# Altium integrated library ST Memory EEPROM Serial.IntLib: 637 symbols (part 1 of 9)
Pins are listed as number, name and electrical type; pins without a type are passive.

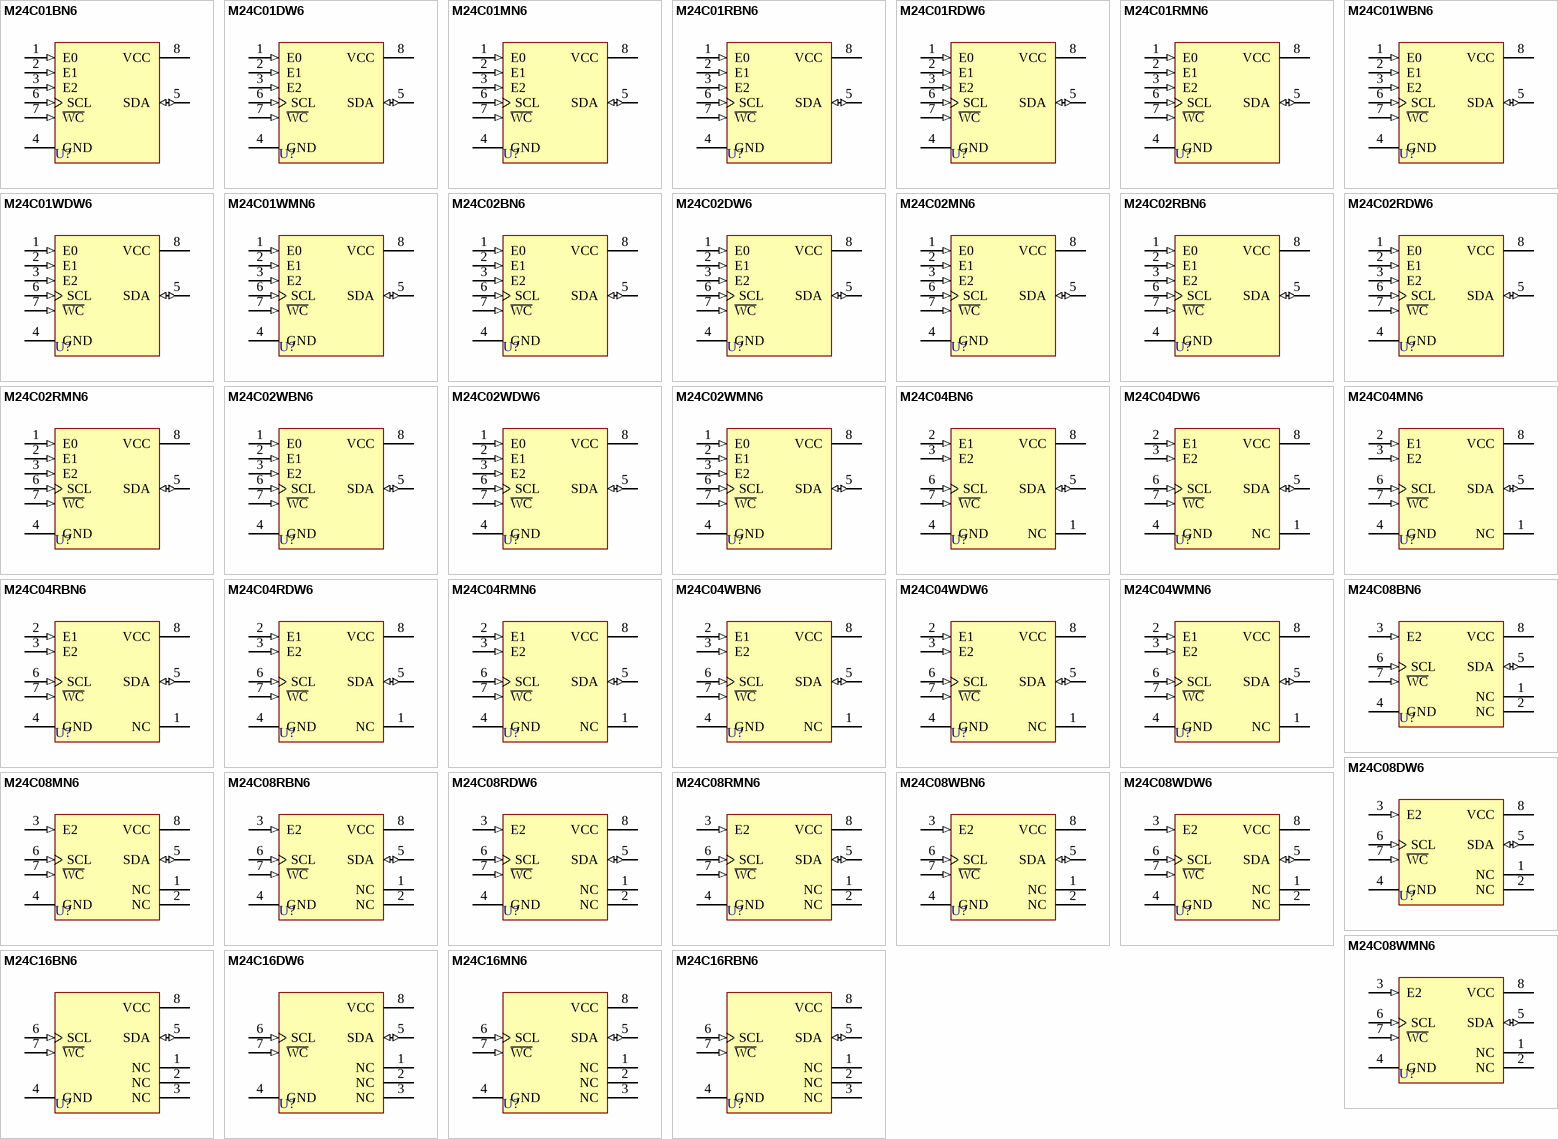
[diagram p0: symbols M24C01BN6 to M24C16RBN6]

## M24C01BN6
designator U?
1Kbit Serial I²C Bus EEPROM; Published: 24-Aug-2001; LatestRevisionDate: 6-Jun-2005; LatestRevisionNote: Stylized 3D Model Added.; DatasheetDocument: Sep-1999; PackageDocument: Jun-1998; PackageReference: PSDIP8A; Publisher: Altium Limited; ComponentLink1Description: Manufacturer Link; ComponentLink1URL: http://www.st.com/; ComponentLink2Description: Datasheet; ComponentLink2URL: http://www.st.com/stonline/products/literature/ds/5067/m24c01-r.pdf
footprint PSDIP8A (DIP; 8 Leads; Row Spacing 7.62 mm; Pitch 2.54 mm)
3D model PSDIP8A (DIP; 8 Leads; Row Spacing 7.62 mm; Pitch 2.54 mm)
pins: 1 E0 (in), 2 E1 (in), 3 E2 (in), 4 GND (power), 5 SDA (io), 6 SCL (in), 7 ~{WC} (in), 8 VCC (power)

## M24C01DW6
designator U?
1Kbit Serial I²C Bus EEPROM; Published: 24-Aug-2001; LatestRevisionDate: 6-Jun-2005; LatestRevisionNote: Stylized 3D Model Added.; DatasheetDocument: Sep-1999; PackageDocument: Jul-1998; PackageReference: TSSOP8; Publisher: Altium Limited; ComponentLink1Description: Manufacturer Link; ComponentLink1URL: http://www.st.com/; ComponentLink2Description: Datasheet; ComponentLink2URL: http://www.st.com/stonline/products/literature/ds/5067/m24c01-r.pdf
footprint TSSOP8 (Shrink Small Outline; 8 Leads; Body Width 4.4 mm; Pitch 0.65 mm)
3D model TSSOP8 (Shrink Small Outline; 8 Leads; Body Width 4.4 mm; Pitch 0.65 mm)
pins: 1 E0 (in), 2 E1 (in), 3 E2 (in), 4 GND (power), 5 SDA (io), 6 SCL (in), 7 ~{WC} (in), 8 VCC (power)

## M24C01MN6
designator U?
1Kbit Serial I²C Bus EEPROM; Published: 24-Aug-2001; LatestRevisionDate: 6-Jun-2005; LatestRevisionNote: Stylized 3D Model Added.; DatasheetDocument: Sep-1999; PackageDocument: Jul-1999; PackageReference: SOP8; Publisher: Altium Limited; ComponentLink1Description: Manufacturer Link; ComponentLink1URL: http://www.st.com/; ComponentLink2Description: Datasheet; ComponentLink2URL: http://www.st.com/stonline/products/literature/ds/5067/m24c01-r.pdf
footprint SOP8 (Small Outline; 8 Leads; Body Width 3.9 mm; Pitch 1.27 mm)
3D model SOP8 (Small Outline; 8 Leads; Body Width 3.9 mm; Pitch 1.27 mm)
pins: 1 E0 (in), 2 E1 (in), 3 E2 (in), 4 GND (power), 5 SDA (io), 6 SCL (in), 7 ~{WC} (in), 8 VCC (power)

## M24C01RBN6
designator U?
1Kbit Serial I²C Bus EEPROM; Published: 24-Aug-2001; LatestRevisionDate: 6-Jun-2005; LatestRevisionNote: Stylized 3D Model Added.; DatasheetDocument: Sep-1999; PackageDocument: Jun-1998; PackageReference: PSDIP8A; Publisher: Altium Limited; ComponentLink1Description: Manufacturer Link; ComponentLink1URL: http://www.st.com/; ComponentLink2Description: Datasheet; ComponentLink2URL: http://www.st.com/stonline/products/literature/ds/5067/m24c01-r.pdf
footprint PSDIP8A (DIP; 8 Leads; Row Spacing 7.62 mm; Pitch 2.54 mm)
3D model PSDIP8A (DIP; 8 Leads; Row Spacing 7.62 mm; Pitch 2.54 mm)
pins: 1 E0 (in), 2 E1 (in), 3 E2 (in), 4 GND (power), 5 SDA (io), 6 SCL (in), 7 ~{WC} (in), 8 VCC (power)

## M24C01RDW6
designator U?
1Kbit Serial I²C Bus EEPROM; Published: 24-Aug-2001; LatestRevisionDate: 6-Jun-2005; LatestRevisionNote: Stylized 3D Model Added.; DatasheetDocument: Sep-1999; PackageDocument: Jul-1998; PackageReference: TSSOP8; Publisher: Altium Limited; ComponentLink1Description: Manufacturer Link; ComponentLink1URL: http://www.st.com/; ComponentLink2Description: Datasheet; ComponentLink2URL: http://www.st.com/stonline/products/literature/ds/5067/m24c01-r.pdf
footprint TSSOP8 (Shrink Small Outline; 8 Leads; Body Width 4.4 mm; Pitch 0.65 mm)
3D model TSSOP8 (Shrink Small Outline; 8 Leads; Body Width 4.4 mm; Pitch 0.65 mm)
pins: 1 E0 (in), 2 E1 (in), 3 E2 (in), 4 GND (power), 5 SDA (io), 6 SCL (in), 7 ~{WC} (in), 8 VCC (power)

## M24C01RMN6
designator U?
1Kbit Serial I²C Bus EEPROM; Published: 24-Aug-2001; LatestRevisionDate: 6-Jun-2005; LatestRevisionNote: Stylized 3D Model Added.; DatasheetDocument: Sep-1999; PackageDocument: Jul-1999; PackageReference: SOP8; Publisher: Altium Limited; ComponentLink1Description: Manufacturer Link; ComponentLink1URL: http://www.st.com/; ComponentLink2Description: Datasheet; ComponentLink2URL: http://www.st.com/stonline/products/literature/ds/5067/m24c01-r.pdf
footprint SOP8 (Small Outline; 8 Leads; Body Width 3.9 mm; Pitch 1.27 mm)
3D model SOP8 (Small Outline; 8 Leads; Body Width 3.9 mm; Pitch 1.27 mm)
pins: 1 E0 (in), 2 E1 (in), 3 E2 (in), 4 GND (power), 5 SDA (io), 6 SCL (in), 7 ~{WC} (in), 8 VCC (power)

## M24C01WBN6
designator U?
1Kbit Serial I²C Bus EEPROM; Published: 24-Aug-2001; LatestRevisionDate: 6-Jun-2005; LatestRevisionNote: Stylized 3D Model Added.; DatasheetDocument: Sep-1999; PackageDocument: Jun-1998; PackageReference: PSDIP8A; Publisher: Altium Limited; ComponentLink1Description: Manufacturer Link; ComponentLink1URL: http://www.st.com/; ComponentLink2Description: Datasheet; ComponentLink2URL: http://www.st.com/stonline/products/literature/ds/5067/m24c01-r.pdf
footprint PSDIP8A (DIP; 8 Leads; Row Spacing 7.62 mm; Pitch 2.54 mm)
3D model PSDIP8A (DIP; 8 Leads; Row Spacing 7.62 mm; Pitch 2.54 mm)
pins: 1 E0 (in), 2 E1 (in), 3 E2 (in), 4 GND (power), 5 SDA (io), 6 SCL (in), 7 ~{WC} (in), 8 VCC (power)

## M24C01WDW6
designator U?
1Kbit Serial I²C Bus EEPROM; Published: 24-Aug-2001; LatestRevisionDate: 6-Jun-2005; LatestRevisionNote: Stylized 3D Model Added.; DatasheetDocument: Sep-1999; PackageDocument: Jul-1998; PackageReference: TSSOP8; Publisher: Altium Limited; ComponentLink1Description: Manufacturer Link; ComponentLink1URL: http://www.st.com/; ComponentLink2Description: Datasheet; ComponentLink2URL: http://www.st.com/stonline/products/literature/ds/5067/m24c01-r.pdf
footprint TSSOP8 (Shrink Small Outline; 8 Leads; Body Width 4.4 mm; Pitch 0.65 mm)
3D model TSSOP8 (Shrink Small Outline; 8 Leads; Body Width 4.4 mm; Pitch 0.65 mm)
pins: 1 E0 (in), 2 E1 (in), 3 E2 (in), 4 GND (power), 5 SDA (io), 6 SCL (in), 7 ~{WC} (in), 8 VCC (power)

## M24C01WMN6
designator U?
1Kbit Serial I²C Bus EEPROM; Published: 24-Aug-2001; LatestRevisionDate: 6-Jun-2005; LatestRevisionNote: Stylized 3D Model Added.; DatasheetDocument: Sep-1999; PackageDocument: Jul-1999; PackageReference: SOP8; Publisher: Altium Limited; ComponentLink1Description: Manufacturer Link; ComponentLink1URL: http://www.st.com/; ComponentLink2Description: Datasheet; ComponentLink2URL: http://www.st.com/stonline/products/literature/ds/5067/m24c01-r.pdf
footprint SOP8 (Small Outline; 8 Leads; Body Width 3.9 mm; Pitch 1.27 mm)
3D model SOP8 (Small Outline; 8 Leads; Body Width 3.9 mm; Pitch 1.27 mm)
pins: 1 E0 (in), 2 E1 (in), 3 E2 (in), 4 GND (power), 5 SDA (io), 6 SCL (in), 7 ~{WC} (in), 8 VCC (power)

## M24C02BN6
designator U?
2Kbit Serial I²C Bus EEPROM; Published: 24-Aug-2001; LatestRevisionDate: 6-Jun-2005; LatestRevisionNote: Stylized 3D Model Added.; DatasheetDocument: Sep-1999; PackageDocument: Jun-1998; PackageReference: PSDIP8A; Publisher: Altium Limited; ComponentLink1Description: Manufacturer Link; ComponentLink1URL: http://www.st.com/; ComponentLink2Description: Datasheet; ComponentLink2URL: http://www.st.com/stonline/products/literature/ds/5067/m24c01-r.pdf
footprint PSDIP8A (DIP; 8 Leads; Row Spacing 7.62 mm; Pitch 2.54 mm)
3D model PSDIP8A (DIP; 8 Leads; Row Spacing 7.62 mm; Pitch 2.54 mm)
pins: 1 E0 (in), 2 E1 (in), 3 E2 (in), 4 GND (power), 5 SDA (io), 6 SCL (in), 7 ~{WC} (in), 8 VCC (power)

## M24C02DW6
designator U?
2Kbit Serial I²C Bus EEPROM; Published: 24-Aug-2001; LatestRevisionDate: 6-Jun-2005; LatestRevisionNote: Stylized 3D Model Added.; DatasheetDocument: Sep-1999; PackageDocument: Jul-1998; PackageReference: TSSOP8; Publisher: Altium Limited; ComponentLink1Description: Manufacturer Link; ComponentLink1URL: http://www.st.com/; ComponentLink2Description: Datasheet; ComponentLink2URL: http://www.st.com/stonline/products/literature/ds/5067/m24c01-r.pdf
footprint TSSOP8 (Shrink Small Outline; 8 Leads; Body Width 4.4 mm; Pitch 0.65 mm)
3D model TSSOP8 (Shrink Small Outline; 8 Leads; Body Width 4.4 mm; Pitch 0.65 mm)
pins: 1 E0 (in), 2 E1 (in), 3 E2 (in), 4 GND (power), 5 SDA (io), 6 SCL (in), 7 ~{WC} (in), 8 VCC (power)

## M24C02MN6
designator U?
2Kbit Serial I²C Bus EEPROM; Published: 24-Aug-2001; LatestRevisionDate: 6-Jun-2005; LatestRevisionNote: Stylized 3D Model Added.; DatasheetDocument: Sep-1999; PackageDocument: Jul-1999; PackageReference: SOP8; Publisher: Altium Limited; ComponentLink1Description: Manufacturer Link; ComponentLink1URL: http://www.st.com/; ComponentLink2Description: Datasheet; ComponentLink2URL: http://www.st.com/stonline/products/literature/ds/5067/m24c01-r.pdf
footprint SOP8 (Small Outline; 8 Leads; Body Width 3.9 mm; Pitch 1.27 mm)
3D model SOP8 (Small Outline; 8 Leads; Body Width 3.9 mm; Pitch 1.27 mm)
pins: 1 E0 (in), 2 E1 (in), 3 E2 (in), 4 GND (power), 5 SDA (io), 6 SCL (in), 7 ~{WC} (in), 8 VCC (power)

## M24C02RBN6
designator U?
2Kbit Serial I²C Bus EEPROM; Published: 24-Aug-2001; LatestRevisionDate: 6-Jun-2005; LatestRevisionNote: Stylized 3D Model Added.; DatasheetDocument: Sep-1999; PackageDocument: Jun-1998; PackageReference: PSDIP8A; Publisher: Altium Limited; ComponentLink1Description: Manufacturer Link; ComponentLink1URL: http://www.st.com/; ComponentLink2Description: Datasheet; ComponentLink2URL: http://www.st.com/stonline/products/literature/ds/5067/m24c01-r.pdf
footprint PSDIP8A (DIP; 8 Leads; Row Spacing 7.62 mm; Pitch 2.54 mm)
3D model PSDIP8A (DIP; 8 Leads; Row Spacing 7.62 mm; Pitch 2.54 mm)
pins: 1 E0 (in), 2 E1 (in), 3 E2 (in), 4 GND (power), 5 SDA (io), 6 SCL (in), 7 ~{WC} (in), 8 VCC (power)

## M24C02RDW6
designator U?
2Kbit Serial I²C Bus EEPROM; Published: 24-Aug-2001; LatestRevisionDate: 6-Jun-2005; LatestRevisionNote: Stylized 3D Model Added.; DatasheetDocument: Sep-1999; PackageDocument: Jul-1998; PackageReference: TSSOP8; Publisher: Altium Limited; ComponentLink1Description: Manufacturer Link; ComponentLink1URL: http://www.st.com/; ComponentLink2Description: Datasheet; ComponentLink2URL: http://www.st.com/stonline/products/literature/ds/5067/m24c01-r.pdf
footprint TSSOP8 (Shrink Small Outline; 8 Leads; Body Width 4.4 mm; Pitch 0.65 mm)
3D model TSSOP8 (Shrink Small Outline; 8 Leads; Body Width 4.4 mm; Pitch 0.65 mm)
pins: 1 E0 (in), 2 E1 (in), 3 E2 (in), 4 GND (power), 5 SDA (io), 6 SCL (in), 7 ~{WC} (in), 8 VCC (power)

## M24C02RMN6
designator U?
2Kbit Serial I²C Bus EEPROM; Published: 24-Aug-2001; LatestRevisionDate: 6-Jun-2005; LatestRevisionNote: Stylized 3D Model Added.; DatasheetDocument: Sep-1999; PackageDocument: Jul-1999; PackageReference: SOP8; Publisher: Altium Limited; ComponentLink1Description: Manufacturer Link; ComponentLink1URL: http://www.st.com/; ComponentLink2Description: Datasheet; ComponentLink2URL: http://www.st.com/stonline/products/literature/ds/5067/m24c01-r.pdf
footprint SOP8 (Small Outline; 8 Leads; Body Width 3.9 mm; Pitch 1.27 mm)
3D model SOP8 (Small Outline; 8 Leads; Body Width 3.9 mm; Pitch 1.27 mm)
pins: 1 E0 (in), 2 E1 (in), 3 E2 (in), 4 GND (power), 5 SDA (io), 6 SCL (in), 7 ~{WC} (in), 8 VCC (power)

## M24C02WBN6
designator U?
2Kbit Serial I²C Bus EEPROM; Published: 24-Aug-2001; LatestRevisionDate: 6-Jun-2005; LatestRevisionNote: Stylized 3D Model Added.; DatasheetDocument: Sep-1999; PackageDocument: Jun-1998; PackageReference: PSDIP8A; Publisher: Altium Limited; ComponentLink1Description: Manufacturer Link; ComponentLink1URL: http://www.st.com/; ComponentLink2Description: Datasheet; ComponentLink2URL: http://www.st.com/stonline/products/literature/ds/5067/m24c01-r.pdf
footprint PSDIP8A (DIP; 8 Leads; Row Spacing 7.62 mm; Pitch 2.54 mm)
3D model PSDIP8A (DIP; 8 Leads; Row Spacing 7.62 mm; Pitch 2.54 mm)
pins: 1 E0 (in), 2 E1 (in), 3 E2 (in), 4 GND (power), 5 SDA (io), 6 SCL (in), 7 ~{WC} (in), 8 VCC (power)

## M24C02WDW6
designator U?
2Kbit Serial I²C Bus EEPROM; Published: 24-Aug-2001; LatestRevisionDate: 6-Jun-2005; LatestRevisionNote: Stylized 3D Model Added.; DatasheetDocument: Sep-1999; PackageDocument: Jul-1998; PackageReference: TSSOP8; Publisher: Altium Limited; ComponentLink1Description: Manufacturer Link; ComponentLink1URL: http://www.st.com/; ComponentLink2Description: Datasheet; ComponentLink2URL: http://www.st.com/stonline/products/literature/ds/5067/m24c01-r.pdf
footprint TSSOP8 (Shrink Small Outline; 8 Leads; Body Width 4.4 mm; Pitch 0.65 mm)
3D model TSSOP8 (Shrink Small Outline; 8 Leads; Body Width 4.4 mm; Pitch 0.65 mm)
pins: 1 E0 (in), 2 E1 (in), 3 E2 (in), 4 GND (power), 5 SDA (io), 6 SCL (in), 7 ~{WC} (in), 8 VCC (power)

## M24C02WMN6
designator U?
2Kbit Serial I²C Bus EEPROM; Published: 24-Aug-2001; LatestRevisionDate: 6-Jun-2005; LatestRevisionNote: Stylized 3D Model Added.; DatasheetDocument: Sep-1999; PackageDocument: Jul-1999; PackageReference: SOP8; Publisher: Altium Limited; ComponentLink1Description: Manufacturer Link; ComponentLink1URL: http://www.st.com/; ComponentLink2Description: Datasheet; ComponentLink2URL: http://www.st.com/stonline/products/literature/ds/5067/m24c01-r.pdf
footprint SOP8 (Small Outline; 8 Leads; Body Width 3.9 mm; Pitch 1.27 mm)
3D model SOP8 (Small Outline; 8 Leads; Body Width 3.9 mm; Pitch 1.27 mm)
pins: 1 E0 (in), 2 E1 (in), 3 E2 (in), 4 GND (power), 5 SDA (io), 6 SCL (in), 7 ~{WC} (in), 8 VCC (power)

## M24C04BN6
designator U?
4Kbit Serial I²C Bus EEPROM; Published: 24-Aug-2001; LatestRevisionDate: 6-Jun-2005; LatestRevisionNote: Stylized 3D Model Added.; DatasheetDocument: Sep-1999; PackageDocument: Jun-1998; PackageReference: PSDIP8A; Publisher: Altium Limited; ComponentLink1Description: Manufacturer Link; ComponentLink1URL: http://www.st.com/; ComponentLink2Description: Datasheet; ComponentLink2URL: http://www.st.com/stonline/products/literature/ds/5067/m24c01-r.pdf
footprint PSDIP8A (DIP; 8 Leads; Row Spacing 7.62 mm; Pitch 2.54 mm)
3D model PSDIP8A (DIP; 8 Leads; Row Spacing 7.62 mm; Pitch 2.54 mm)
pins: 1 NC, 2 E1 (in), 3 E2 (in), 4 GND (power), 5 SDA (io), 6 SCL (in), 7 ~{WC} (in), 8 VCC (power)

## M24C04DW6
designator U?
4Kbit Serial I²C Bus EEPROM; Published: 24-Aug-2001; LatestRevisionDate: 6-Jun-2005; LatestRevisionNote: Stylized 3D Model Added.; DatasheetDocument: Sep-1999; PackageDocument: Jul-1998; PackageReference: TSSOP8; Publisher: Altium Limited; ComponentLink1Description: Manufacturer Link; ComponentLink1URL: http://www.st.com/; ComponentLink2Description: Datasheet; ComponentLink2URL: http://www.st.com/stonline/products/literature/ds/5067/m24c01-r.pdf
footprint TSSOP8 (Shrink Small Outline; 8 Leads; Body Width 4.4 mm; Pitch 0.65 mm)
3D model TSSOP8 (Shrink Small Outline; 8 Leads; Body Width 4.4 mm; Pitch 0.65 mm)
pins: 1 NC, 2 E1 (in), 3 E2 (in), 4 GND (power), 5 SDA (io), 6 SCL (in), 7 ~{WC} (in), 8 VCC (power)

## M24C04MN6
designator U?
4Kbit Serial I²C Bus EEPROM; Published: 24-Aug-2001; LatestRevisionDate: 6-Jun-2005; LatestRevisionNote: Stylized 3D Model Added.; DatasheetDocument: Sep-1999; PackageDocument: Jul-1999; PackageReference: SOP8; Publisher: Altium Limited; ComponentLink1Description: Manufacturer Link; ComponentLink1URL: http://www.st.com/; ComponentLink2Description: Datasheet; ComponentLink2URL: http://www.st.com/stonline/products/literature/ds/5067/m24c01-r.pdf
footprint SOP8 (Small Outline; 8 Leads; Body Width 3.9 mm; Pitch 1.27 mm)
3D model SOP8 (Small Outline; 8 Leads; Body Width 3.9 mm; Pitch 1.27 mm)
pins: 1 NC, 2 E1 (in), 3 E2 (in), 4 GND (power), 5 SDA (io), 6 SCL (in), 7 ~{WC} (in), 8 VCC (power)

## M24C04RBN6
designator U?
4Kbit Serial I²C Bus EEPROM; Published: 24-Aug-2001; LatestRevisionDate: 6-Jun-2005; LatestRevisionNote: Stylized 3D Model Added.; DatasheetDocument: Sep-1999; PackageDocument: Jun-1998; PackageReference: PSDIP8A; Publisher: Altium Limited; ComponentLink1Description: Manufacturer Link; ComponentLink1URL: http://www.st.com/; ComponentLink2Description: Datasheet; ComponentLink2URL: http://www.st.com/stonline/products/literature/ds/5067/m24c01-r.pdf
footprint PSDIP8A (DIP; 8 Leads; Row Spacing 7.62 mm; Pitch 2.54 mm)
3D model PSDIP8A (DIP; 8 Leads; Row Spacing 7.62 mm; Pitch 2.54 mm)
pins: 1 NC, 2 E1 (in), 3 E2 (in), 4 GND (power), 5 SDA (io), 6 SCL (in), 7 ~{WC} (in), 8 VCC (power)

## M24C04RDW6
designator U?
4Kbit Serial I²C Bus EEPROM; Published: 24-Aug-2001; LatestRevisionDate: 6-Jun-2005; LatestRevisionNote: Stylized 3D Model Added.; DatasheetDocument: Sep-1999; PackageDocument: Jul-1998; PackageReference: TSSOP8; Publisher: Altium Limited; ComponentLink1Description: Manufacturer Link; ComponentLink1URL: http://www.st.com/; ComponentLink2Description: Datasheet; ComponentLink2URL: http://www.st.com/stonline/products/literature/ds/5067/m24c01-r.pdf
footprint TSSOP8 (Shrink Small Outline; 8 Leads; Body Width 4.4 mm; Pitch 0.65 mm)
3D model TSSOP8 (Shrink Small Outline; 8 Leads; Body Width 4.4 mm; Pitch 0.65 mm)
pins: 1 NC, 2 E1 (in), 3 E2 (in), 4 GND (power), 5 SDA (io), 6 SCL (in), 7 ~{WC} (in), 8 VCC (power)

## M24C04RMN6
designator U?
4Kbit Serial I²C Bus EEPROM; Published: 24-Aug-2001; LatestRevisionDate: 6-Jun-2005; LatestRevisionNote: Stylized 3D Model Added.; DatasheetDocument: Sep-1999; PackageDocument: Jul-1999; PackageReference: SOP8; Publisher: Altium Limited; ComponentLink1Description: Manufacturer Link; ComponentLink1URL: http://www.st.com/; ComponentLink2Description: Datasheet; ComponentLink2URL: http://www.st.com/stonline/products/literature/ds/5067/m24c01-r.pdf
footprint SOP8 (Small Outline; 8 Leads; Body Width 3.9 mm; Pitch 1.27 mm)
3D model SOP8 (Small Outline; 8 Leads; Body Width 3.9 mm; Pitch 1.27 mm)
pins: 1 NC, 2 E1 (in), 3 E2 (in), 4 GND (power), 5 SDA (io), 6 SCL (in), 7 ~{WC} (in), 8 VCC (power)

## M24C04WBN6
designator U?
4Kbit Serial I²C Bus EEPROM; Published: 24-Aug-2001; LatestRevisionDate: 6-Jun-2005; LatestRevisionNote: Stylized 3D Model Added.; DatasheetDocument: Sep-1999; PackageDocument: Jun-1998; PackageReference: PSDIP8A; Publisher: Altium Limited; ComponentLink1Description: Manufacturer Link; ComponentLink1URL: http://www.st.com/; ComponentLink2Description: Datasheet; ComponentLink2URL: http://www.st.com/stonline/products/literature/ds/5067/m24c01-r.pdf
footprint PSDIP8A (DIP; 8 Leads; Row Spacing 7.62 mm; Pitch 2.54 mm)
3D model PSDIP8A (DIP; 8 Leads; Row Spacing 7.62 mm; Pitch 2.54 mm)
pins: 1 NC, 2 E1 (in), 3 E2 (in), 4 GND (power), 5 SDA (io), 6 SCL (in), 7 ~{WC} (in), 8 VCC (power)

## M24C04WDW6
designator U?
4Kbit Serial I²C Bus EEPROM; Published: 24-Aug-2001; LatestRevisionDate: 6-Jun-2005; LatestRevisionNote: Stylized 3D Model Added.; DatasheetDocument: Sep-1999; PackageDocument: Jul-1998; PackageReference: TSSOP8; Publisher: Altium Limited; ComponentLink1Description: Manufacturer Link; ComponentLink1URL: http://www.st.com/; ComponentLink2Description: Datasheet; ComponentLink2URL: http://www.st.com/stonline/products/literature/ds/5067/m24c01-r.pdf
footprint TSSOP8 (Shrink Small Outline; 8 Leads; Body Width 4.4 mm; Pitch 0.65 mm)
3D model TSSOP8 (Shrink Small Outline; 8 Leads; Body Width 4.4 mm; Pitch 0.65 mm)
pins: 1 NC, 2 E1 (in), 3 E2 (in), 4 GND (power), 5 SDA (io), 6 SCL (in), 7 ~{WC} (in), 8 VCC (power)

## M24C04WMN6
designator U?
4Kbit Serial I²C Bus EEPROM; Published: 24-Aug-2001; LatestRevisionDate: 6-Jun-2005; LatestRevisionNote: Stylized 3D Model Added.; DatasheetDocument: Sep-1999; PackageDocument: Jul-1999; PackageReference: SOP8; Publisher: Altium Limited; ComponentLink1Description: Manufacturer Link; ComponentLink1URL: http://www.st.com/; ComponentLink2Description: Datasheet; ComponentLink2URL: http://www.st.com/stonline/products/literature/ds/5067/m24c01-r.pdf
footprint SOP8 (Small Outline; 8 Leads; Body Width 3.9 mm; Pitch 1.27 mm)
3D model SOP8 (Small Outline; 8 Leads; Body Width 3.9 mm; Pitch 1.27 mm)
pins: 1 NC, 2 E1 (in), 3 E2 (in), 4 GND (power), 5 SDA (io), 6 SCL (in), 7 ~{WC} (in), 8 VCC (power)

## M24C08BN6
designator U?
8Kbit Serial I²C Bus EEPROM; Published: 24-Aug-2001; LatestRevisionDate: 6-Jun-2005; LatestRevisionNote: Stylized 3D Model Added.; DatasheetDocument: Sep-1999; PackageDocument: Jun-1998; PackageReference: PSDIP8A; Publisher: Altium Limited; ComponentLink1Description: Manufacturer Link; ComponentLink1URL: http://www.st.com/; ComponentLink2Description: Datasheet; ComponentLink2URL: http://www.st.com/stonline/products/literature/ds/5067/m24c01-r.pdf
footprint PSDIP8A (DIP; 8 Leads; Row Spacing 7.62 mm; Pitch 2.54 mm)
3D model PSDIP8A (DIP; 8 Leads; Row Spacing 7.62 mm; Pitch 2.54 mm)
pins: 1 NC, 2 NC, 3 E2 (in), 4 GND (power), 5 SDA (io), 6 SCL (in), 7 ~{WC} (in), 8 VCC (power)

## M24C08DW6
designator U?
8Kbit Serial I²C Bus EEPROM; Published: 24-Aug-2001; LatestRevisionDate: 6-Jun-2005; LatestRevisionNote: Stylized 3D Model Added.; DatasheetDocument: Sep-1999; PackageDocument: Jul-1998; PackageReference: TSSOP8; Publisher: Altium Limited; ComponentLink1Description: Manufacturer Link; ComponentLink1URL: http://www.st.com/; ComponentLink2Description: Datasheet; ComponentLink2URL: http://www.st.com/stonline/products/literature/ds/5067/m24c01-r.pdf
footprint TSSOP8 (Shrink Small Outline; 8 Leads; Body Width 4.4 mm; Pitch 0.65 mm)
3D model TSSOP8 (Shrink Small Outline; 8 Leads; Body Width 4.4 mm; Pitch 0.65 mm)
pins: 1 NC, 2 NC, 3 E2 (in), 4 GND (power), 5 SDA (io), 6 SCL (in), 7 ~{WC} (in), 8 VCC (power)

## M24C08MN6
designator U?
8Kbit Serial I²C Bus EEPROM; Published: 24-Aug-2001; LatestRevisionDate: 6-Jun-2005; LatestRevisionNote: Stylized 3D Model Added.; DatasheetDocument: Sep-1999; PackageDocument: Jul-1999; PackageReference: SOP8; Publisher: Altium Limited; ComponentLink1Description: Manufacturer Link; ComponentLink1URL: http://www.st.com/; ComponentLink2Description: Datasheet; ComponentLink2URL: http://www.st.com/stonline/products/literature/ds/5067/m24c01-r.pdf
footprint SOP8 (Small Outline; 8 Leads; Body Width 3.9 mm; Pitch 1.27 mm)
3D model SOP8 (Small Outline; 8 Leads; Body Width 3.9 mm; Pitch 1.27 mm)
pins: 1 NC, 2 NC, 3 E2 (in), 4 GND (power), 5 SDA (io), 6 SCL (in), 7 ~{WC} (in), 8 VCC (power)

## M24C08RBN6
designator U?
8Kbit Serial I²C Bus EEPROM; Published: 24-Aug-2001; LatestRevisionDate: 6-Jun-2005; LatestRevisionNote: Stylized 3D Model Added.; DatasheetDocument: Sep-1999; PackageDocument: Jun-1998; PackageReference: PSDIP8A; Publisher: Altium Limited; ComponentLink1Description: Manufacturer Link; ComponentLink1URL: http://www.st.com/; ComponentLink2Description: Datasheet; ComponentLink2URL: http://www.st.com/stonline/products/literature/ds/5067/m24c01-r.pdf
footprint PSDIP8A (DIP; 8 Leads; Row Spacing 7.62 mm; Pitch 2.54 mm)
3D model PSDIP8A (DIP; 8 Leads; Row Spacing 7.62 mm; Pitch 2.54 mm)
pins: 1 NC, 2 NC, 3 E2 (in), 4 GND (power), 5 SDA (io), 6 SCL (in), 7 ~{WC} (in), 8 VCC (power)

## M24C08RDW6
designator U?
8Kbit Serial I²C Bus EEPROM; Published: 24-Aug-2001; LatestRevisionDate: 6-Jun-2005; LatestRevisionNote: Stylized 3D Model Added.; DatasheetDocument: Sep-1999; PackageDocument: Jul-1998; PackageReference: TSSOP8; Publisher: Altium Limited; ComponentLink1Description: Manufacturer Link; ComponentLink1URL: http://www.st.com/; ComponentLink2Description: Datasheet; ComponentLink2URL: http://www.st.com/stonline/products/literature/ds/5067/m24c01-r.pdf
footprint TSSOP8 (Shrink Small Outline; 8 Leads; Body Width 4.4 mm; Pitch 0.65 mm)
3D model TSSOP8 (Shrink Small Outline; 8 Leads; Body Width 4.4 mm; Pitch 0.65 mm)
pins: 1 NC, 2 NC, 3 E2 (in), 4 GND (power), 5 SDA (io), 6 SCL (in), 7 ~{WC} (in), 8 VCC (power)

## M24C08RMN6
designator U?
8Kbit Serial I²C Bus EEPROM; Published: 24-Aug-2001; LatestRevisionDate: 6-Jun-2005; LatestRevisionNote: Stylized 3D Model Added.; DatasheetDocument: Sep-1999; PackageDocument: Jul-1999; PackageReference: SOP8; Publisher: Altium Limited; ComponentLink1Description: Manufacturer Link; ComponentLink1URL: http://www.st.com/; ComponentLink2Description: Datasheet; ComponentLink2URL: http://www.st.com/stonline/products/literature/ds/5067/m24c01-r.pdf
footprint SOP8 (Small Outline; 8 Leads; Body Width 3.9 mm; Pitch 1.27 mm)
3D model SOP8 (Small Outline; 8 Leads; Body Width 3.9 mm; Pitch 1.27 mm)
pins: 1 NC, 2 NC, 3 E2 (in), 4 GND (power), 5 SDA (io), 6 SCL (in), 7 ~{WC} (in), 8 VCC (power)

## M24C08WBN6
designator U?
8Kbit Serial I²C Bus EEPROM; Published: 24-Aug-2001; LatestRevisionDate: 6-Jun-2005; LatestRevisionNote: Stylized 3D Model Added.; DatasheetDocument: Sep-1999; PackageDocument: Jun-1998; PackageReference: PSDIP8A; Publisher: Altium Limited; ComponentLink1Description: Manufacturer Link; ComponentLink1URL: http://www.st.com/; ComponentLink2Description: Datasheet; ComponentLink2URL: http://www.st.com/stonline/products/literature/ds/5067/m24c01-r.pdf
footprint PSDIP8A (DIP; 8 Leads; Row Spacing 7.62 mm; Pitch 2.54 mm)
3D model PSDIP8A (DIP; 8 Leads; Row Spacing 7.62 mm; Pitch 2.54 mm)
pins: 1 NC, 2 NC, 3 E2 (in), 4 GND (power), 5 SDA (io), 6 SCL (in), 7 ~{WC} (in), 8 VCC (power)

## M24C08WDW6
designator U?
8Kbit Serial I²C Bus EEPROM; Published: 24-Aug-2001; LatestRevisionDate: 6-Jun-2005; LatestRevisionNote: Stylized 3D Model Added.; DatasheetDocument: Sep-1999; PackageDocument: Jul-1998; PackageReference: TSSOP8; Publisher: Altium Limited; ComponentLink1Description: Manufacturer Link; ComponentLink1URL: http://www.st.com/; ComponentLink2Description: Datasheet; ComponentLink2URL: http://www.st.com/stonline/products/literature/ds/5067/m24c01-r.pdf
footprint TSSOP8 (Shrink Small Outline; 8 Leads; Body Width 4.4 mm; Pitch 0.65 mm)
3D model TSSOP8 (Shrink Small Outline; 8 Leads; Body Width 4.4 mm; Pitch 0.65 mm)
pins: 1 NC, 2 NC, 3 E2 (in), 4 GND (power), 5 SDA (io), 6 SCL (in), 7 ~{WC} (in), 8 VCC (power)

## M24C08WMN6
designator U?
8Kbit Serial I²C Bus EEPROM; Published: 24-Aug-2001; LatestRevisionDate: 6-Jun-2005; LatestRevisionNote: Stylized 3D Model Added.; DatasheetDocument: Sep-1999; PackageDocument: Jul-1999; PackageReference: SOP8; Publisher: Altium Limited; ComponentLink1Description: Manufacturer Link; ComponentLink1URL: http://www.st.com/; ComponentLink2Description: Datasheet; ComponentLink2URL: http://www.st.com/stonline/products/literature/ds/5067/m24c01-r.pdf
footprint SOP8 (Small Outline; 8 Leads; Body Width 3.9 mm; Pitch 1.27 mm)
3D model SOP8 (Small Outline; 8 Leads; Body Width 3.9 mm; Pitch 1.27 mm)
pins: 1 NC, 2 NC, 3 E2 (in), 4 GND (power), 5 SDA (io), 6 SCL (in), 7 ~{WC} (in), 8 VCC (power)

## M24C16BN6
designator U?
16Kbit Serial I²C Bus EEPROM; Published: 24-Aug-2001; LatestRevisionDate: 6-Jun-2005; LatestRevisionNote: Stylized 3D Model Added.; DatasheetDocument: Sep-1999; PackageDocument: Jun-1998; PackageReference: PSDIP8A; Publisher: Altium Limited; ComponentLink1Description: Manufacturer Link; ComponentLink1URL: http://www.st.com/; ComponentLink2Description: Datasheet; ComponentLink2URL: http://www.st.com/stonline/products/literature/ds/5067/m24c01-r.pdf
footprint PSDIP8A (DIP; 8 Leads; Row Spacing 7.62 mm; Pitch 2.54 mm)
3D model PSDIP8A (DIP; 8 Leads; Row Spacing 7.62 mm; Pitch 2.54 mm)
pins: 1 NC, 2 NC, 3 NC, 4 GND (power), 5 SDA (io), 6 SCL (in), 7 ~{WC} (in), 8 VCC (power)

## M24C16DW6
designator U?
16Kbit Serial I²C Bus EEPROM; Published: 24-Aug-2001; LatestRevisionDate: 6-Jun-2005; LatestRevisionNote: Stylized 3D Model Added.; DatasheetDocument: Sep-1999; PackageDocument: Jul-1998; PackageReference: TSSOP8; Publisher: Altium Limited; ComponentLink1Description: Manufacturer Link; ComponentLink1URL: http://www.st.com/; ComponentLink2Description: Datasheet; ComponentLink2URL: http://www.st.com/stonline/products/literature/ds/5067/m24c01-r.pdf
footprint TSSOP8 (Shrink Small Outline; 8 Leads; Body Width 4.4 mm; Pitch 0.65 mm)
3D model TSSOP8 (Shrink Small Outline; 8 Leads; Body Width 4.4 mm; Pitch 0.65 mm)
pins: 1 NC, 2 NC, 3 NC, 4 GND (power), 5 SDA (io), 6 SCL (in), 7 ~{WC} (in), 8 VCC (power)

## M24C16MN6
designator U?
16Kbit Serial I²C Bus EEPROM; Published: 24-Aug-2001; LatestRevisionDate: 6-Jun-2005; LatestRevisionNote: Stylized 3D Model Added.; DatasheetDocument: Sep-1999; PackageDocument: Jul-1999; PackageReference: SOP8; Publisher: Altium Limited; ComponentLink1Description: Manufacturer Link; ComponentLink1URL: http://www.st.com/; ComponentLink2Description: Datasheet; ComponentLink2URL: http://www.st.com/stonline/products/literature/ds/5067/m24c01-r.pdf
footprint SOP8 (Small Outline; 8 Leads; Body Width 3.9 mm; Pitch 1.27 mm)
3D model SOP8 (Small Outline; 8 Leads; Body Width 3.9 mm; Pitch 1.27 mm)
pins: 1 NC, 2 NC, 3 NC, 4 GND (power), 5 SDA (io), 6 SCL (in), 7 ~{WC} (in), 8 VCC (power)

## M24C16RBN6
designator U?
16Kbit Serial I²C Bus EEPROM; Published: 24-Aug-2001; LatestRevisionDate: 6-Jun-2005; LatestRevisionNote: Stylized 3D Model Added.; DatasheetDocument: Sep-1999; PackageDocument: Jun-1998; PackageReference: PSDIP8A; Publisher: Altium Limited; ComponentLink1Description: Manufacturer Link; ComponentLink1URL: http://www.st.com/; ComponentLink2Description: Datasheet; ComponentLink2URL: http://www.st.com/stonline/products/literature/ds/5067/m24c01-r.pdf
footprint PSDIP8A (DIP; 8 Leads; Row Spacing 7.62 mm; Pitch 2.54 mm)
3D model PSDIP8A (DIP; 8 Leads; Row Spacing 7.62 mm; Pitch 2.54 mm)
pins: 1 NC, 2 NC, 3 NC, 4 GND (power), 5 SDA (io), 6 SCL (in), 7 ~{WC} (in), 8 VCC (power)

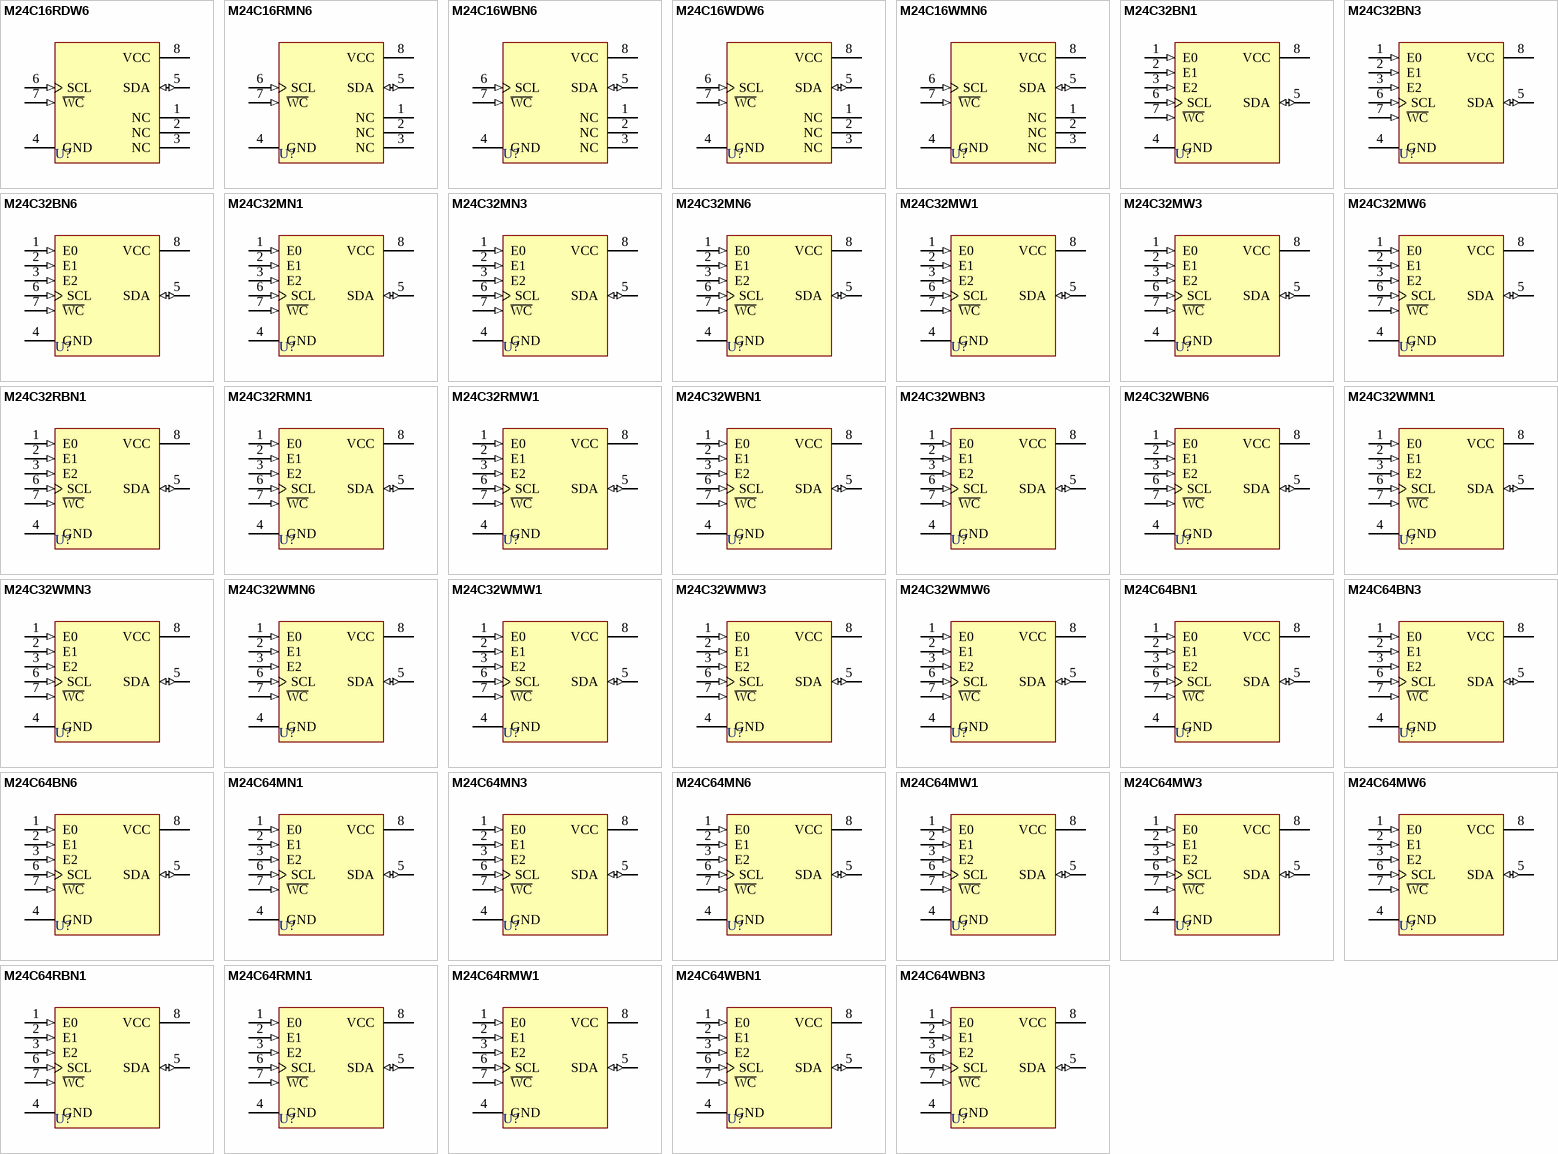
[diagram p1: symbols M24C16RDW6 to M24C64WBN3]

## M24C16RDW6
designator U?
16Kbit Serial I²C Bus EEPROM; Published: 24-Aug-2001; LatestRevisionDate: 6-Jun-2005; LatestRevisionNote: Stylized 3D Model Added.; DatasheetDocument: Sep-1999; PackageDocument: Jul-1998; PackageReference: TSSOP8; Publisher: Altium Limited; ComponentLink1Description: Manufacturer Link; ComponentLink1URL: http://www.st.com/; ComponentLink2Description: Datasheet; ComponentLink2URL: http://www.st.com/stonline/products/literature/ds/5067/m24c01-r.pdf
footprint TSSOP8 (Shrink Small Outline; 8 Leads; Body Width 4.4 mm; Pitch 0.65 mm)
3D model TSSOP8 (Shrink Small Outline; 8 Leads; Body Width 4.4 mm; Pitch 0.65 mm)
pins: 1 NC, 2 NC, 3 NC, 4 GND (power), 5 SDA (io), 6 SCL (in), 7 ~{WC} (in), 8 VCC (power)

## M24C16RMN6
designator U?
16Kbit Serial I²C Bus EEPROM; Published: 24-Aug-2001; LatestRevisionDate: 6-Jun-2005; LatestRevisionNote: Stylized 3D Model Added.; DatasheetDocument: Sep-1999; PackageDocument: Jul-1999; PackageReference: SOP8; Publisher: Altium Limited; ComponentLink1Description: Manufacturer Link; ComponentLink1URL: http://www.st.com/; ComponentLink2Description: Datasheet; ComponentLink2URL: http://www.st.com/stonline/products/literature/ds/5067/m24c01-r.pdf
footprint SOP8 (Small Outline; 8 Leads; Body Width 3.9 mm; Pitch 1.27 mm)
3D model SOP8 (Small Outline; 8 Leads; Body Width 3.9 mm; Pitch 1.27 mm)
pins: 1 NC, 2 NC, 3 NC, 4 GND (power), 5 SDA (io), 6 SCL (in), 7 ~{WC} (in), 8 VCC (power)

## M24C16WBN6
designator U?
16Kbit Serial I²C Bus EEPROM; Published: 24-Aug-2001; LatestRevisionDate: 6-Jun-2005; LatestRevisionNote: Stylized 3D Model Added.; DatasheetDocument: Sep-1999; PackageDocument: Jun-1998; PackageReference: PSDIP8A; Publisher: Altium Limited; ComponentLink1Description: Manufacturer Link; ComponentLink1URL: http://www.st.com/; ComponentLink2Description: Datasheet; ComponentLink2URL: http://www.st.com/stonline/products/literature/ds/5067/m24c01-r.pdf
footprint PSDIP8A (DIP; 8 Leads; Row Spacing 7.62 mm; Pitch 2.54 mm)
3D model PSDIP8A (DIP; 8 Leads; Row Spacing 7.62 mm; Pitch 2.54 mm)
pins: 1 NC, 2 NC, 3 NC, 4 GND (power), 5 SDA (io), 6 SCL (in), 7 ~{WC} (in), 8 VCC (power)

## M24C16WDW6
designator U?
16Kbit Serial I²C Bus EEPROM; Published: 24-Aug-2001; LatestRevisionDate: 6-Jun-2005; LatestRevisionNote: Stylized 3D Model Added.; DatasheetDocument: Sep-1999; PackageDocument: Jul-1998; PackageReference: TSSOP8; Publisher: Altium Limited; ComponentLink1Description: Manufacturer Link; ComponentLink1URL: http://www.st.com/; ComponentLink2Description: Datasheet; ComponentLink2URL: http://www.st.com/stonline/products/literature/ds/5067/m24c01-r.pdf
footprint TSSOP8 (Shrink Small Outline; 8 Leads; Body Width 4.4 mm; Pitch 0.65 mm)
3D model TSSOP8 (Shrink Small Outline; 8 Leads; Body Width 4.4 mm; Pitch 0.65 mm)
pins: 1 NC, 2 NC, 3 NC, 4 GND (power), 5 SDA (io), 6 SCL (in), 7 ~{WC} (in), 8 VCC (power)

## M24C16WMN6
designator U?
16Kbit Serial I²C Bus EEPROM; Published: 24-Aug-2001; LatestRevisionDate: 6-Jun-2005; LatestRevisionNote: Stylized 3D Model Added.; DatasheetDocument: Sep-1999; PackageDocument: Jul-1999; PackageReference: SOP8; Publisher: Altium Limited; ComponentLink1Description: Manufacturer Link; ComponentLink1URL: http://www.st.com/; ComponentLink2Description: Datasheet; ComponentLink2URL: http://www.st.com/stonline/products/literature/ds/5067/m24c01-r.pdf
footprint SOP8 (Small Outline; 8 Leads; Body Width 3.9 mm; Pitch 1.27 mm)
3D model SOP8 (Small Outline; 8 Leads; Body Width 3.9 mm; Pitch 1.27 mm)
pins: 1 NC, 2 NC, 3 NC, 4 GND (power), 5 SDA (io), 6 SCL (in), 7 ~{WC} (in), 8 VCC (power)

## M24C32BN1
designator U?
32 Kbit Serial I²C Bus EEPROM; Published: 24-Aug-2001; LatestRevisionDate: 6-Jun-2005; LatestRevisionNote: Stylized 3D Model Added.; DatasheetDocument: Jul-1999; PackageDocument: Jun-1998; PackageReference: PSDIP8A; Publisher: Altium Limited; ComponentLink1Description: Manufacturer Link; ComponentLink1URL: http://www.st.com/; ComponentLink2Description: Datasheet; ComponentLink2URL: http://www.st.com/stonline/products/literature/ds/4578/m24c32-w.pdf
footprint PSDIP8A (DIP; 8 Leads; Row Spacing 7.62 mm; Pitch 2.54 mm)
3D model PSDIP8A (DIP; 8 Leads; Row Spacing 7.62 mm; Pitch 2.54 mm)
pins: 1 E0 (in), 2 E1 (in), 3 E2 (in), 4 GND (power), 5 SDA (io), 6 SCL (in), 7 ~{WC} (in), 8 VCC (power)

## M24C32BN3
designator U?
32 Kbit Serial I²C Bus EEPROM; Published: 24-Aug-2001; LatestRevisionDate: 6-Jun-2005; LatestRevisionNote: Stylized 3D Model Added.; DatasheetDocument: Jul-1999; PackageDocument: Jun-1998; PackageReference: PSDIP8A; Publisher: Altium Limited; ComponentLink1Description: Manufacturer Link; ComponentLink1URL: http://www.st.com/; ComponentLink2Description: Datasheet; ComponentLink2URL: http://www.st.com/stonline/products/literature/ds/4578/m24c32-w.pdf
footprint PSDIP8A (DIP; 8 Leads; Row Spacing 7.62 mm; Pitch 2.54 mm)
3D model PSDIP8A (DIP; 8 Leads; Row Spacing 7.62 mm; Pitch 2.54 mm)
pins: 1 E0 (in), 2 E1 (in), 3 E2 (in), 4 GND (power), 5 SDA (io), 6 SCL (in), 7 ~{WC} (in), 8 VCC (power)

## M24C32BN6
designator U?
32 Kbit Serial I²C Bus EEPROM; Published: 24-Aug-2001; LatestRevisionDate: 6-Jun-2005; LatestRevisionNote: Stylized 3D Model Added.; DatasheetDocument: Jul-1999; PackageDocument: Jun-1998; PackageReference: PSDIP8A; Publisher: Altium Limited; ComponentLink1Description: Manufacturer Link; ComponentLink1URL: http://www.st.com/; ComponentLink2Description: Datasheet; ComponentLink2URL: http://www.st.com/stonline/products/literature/ds/4578/m24c32-w.pdf
footprint PSDIP8A (DIP; 8 Leads; Row Spacing 7.62 mm; Pitch 2.54 mm)
3D model PSDIP8A (DIP; 8 Leads; Row Spacing 7.62 mm; Pitch 2.54 mm)
pins: 1 E0 (in), 2 E1 (in), 3 E2 (in), 4 GND (power), 5 SDA (io), 6 SCL (in), 7 ~{WC} (in), 8 VCC (power)

## M24C32MN1
designator U?
32 Kbit Serial I²C Bus EEPROM; Published: 24-Aug-2001; LatestRevisionDate: 6-Jun-2005; LatestRevisionNote: Stylized 3D Model Added.; DatasheetDocument: Jul-1999; PackageDocument: Jul-1999; PackageReference: SOP8; Publisher: Altium Limited; ComponentLink1Description: Manufacturer Link; ComponentLink1URL: http://www.st.com/; ComponentLink2Description: Datasheet; ComponentLink2URL: http://www.st.com/stonline/products/literature/ds/4578/m24c32-w.pdf
footprint SOP8 (Small Outline; 8 Leads; Body Width 3.9 mm; Pitch 1.27 mm)
3D model SOP8 (Small Outline; 8 Leads; Body Width 3.9 mm; Pitch 1.27 mm)
pins: 1 E0 (in), 2 E1 (in), 3 E2 (in), 4 GND (power), 5 SDA (io), 6 SCL (in), 7 ~{WC} (in), 8 VCC (power)

## M24C32MN3
designator U?
32 Kbit Serial I²C Bus EEPROM; Published: 24-Aug-2001; LatestRevisionDate: 6-Jun-2005; LatestRevisionNote: Stylized 3D Model Added.; DatasheetDocument: Jul-1999; PackageDocument: Jul-1999; PackageReference: SOP8; Publisher: Altium Limited; ComponentLink1Description: Manufacturer Link; ComponentLink1URL: http://www.st.com/; ComponentLink2Description: Datasheet; ComponentLink2URL: http://www.st.com/stonline/products/literature/ds/4578/m24c32-w.pdf
footprint SOP8 (Small Outline; 8 Leads; Body Width 3.9 mm; Pitch 1.27 mm)
3D model SOP8 (Small Outline; 8 Leads; Body Width 3.9 mm; Pitch 1.27 mm)
pins: 1 E0 (in), 2 E1 (in), 3 E2 (in), 4 GND (power), 5 SDA (io), 6 SCL (in), 7 ~{WC} (in), 8 VCC (power)

## M24C32MN6
designator U?
32 Kbit Serial I²C Bus EEPROM; Published: 24-Aug-2001; LatestRevisionDate: 6-Jun-2005; LatestRevisionNote: Stylized 3D Model Added.; DatasheetDocument: Jul-1999; PackageDocument: Jul-1999; PackageReference: SOP8; Publisher: Altium Limited; ComponentLink1Description: Manufacturer Link; ComponentLink1URL: http://www.st.com/; ComponentLink2Description: Datasheet; ComponentLink2URL: http://www.st.com/stonline/products/literature/ds/4578/m24c32-w.pdf
footprint SOP8 (Small Outline; 8 Leads; Body Width 3.9 mm; Pitch 1.27 mm)
3D model SOP8 (Small Outline; 8 Leads; Body Width 3.9 mm; Pitch 1.27 mm)
pins: 1 E0 (in), 2 E1 (in), 3 E2 (in), 4 GND (power), 5 SDA (io), 6 SCL (in), 7 ~{WC} (in), 8 VCC (power)

## M24C32MW1
designator U?
32 Kbit Serial I²C Bus EEPROM; Published: 24-Aug-2001; LatestRevisionDate: 6-Jun-2005; LatestRevisionNote: Stylized 3D Model Added.; DatasheetDocument: Jul-1999; PackageDocument: Aug-1999; PackageReference: SO8W; Publisher: Altium Limited; ComponentLink1Description: Manufacturer Link; ComponentLink1URL: http://www.st.com/; ComponentLink2Description: Datasheet; ComponentLink2URL: http://www.st.com/stonline/products/literature/ds/4578/m24c32-w.pdf
footprint SO8W (Small Outline; 8 Leads; Body Width 5.3 mm; Pitch 1.27 mm)
3D model SO8W (Small Outline; 8 Leads; Body Width 5.3 mm; Pitch 1.27 mm)
pins: 1 E0 (in), 2 E1 (in), 3 E2 (in), 4 GND (power), 5 SDA (io), 6 SCL (in), 7 ~{WC} (in), 8 VCC (power)

## M24C32MW3
designator U?
32 Kbit Serial I²C Bus EEPROM; Published: 24-Aug-2001; LatestRevisionDate: 6-Jun-2005; LatestRevisionNote: Stylized 3D Model Added.; DatasheetDocument: Jul-1999; PackageDocument: Aug-1999; PackageReference: SO8W; Publisher: Altium Limited; ComponentLink1Description: Manufacturer Link; ComponentLink1URL: http://www.st.com/; ComponentLink2Description: Datasheet; ComponentLink2URL: http://www.st.com/stonline/products/literature/ds/4578/m24c32-w.pdf
footprint SO8W (Small Outline; 8 Leads; Body Width 5.3 mm; Pitch 1.27 mm)
3D model SO8W (Small Outline; 8 Leads; Body Width 5.3 mm; Pitch 1.27 mm)
pins: 1 E0 (in), 2 E1 (in), 3 E2 (in), 4 GND (power), 5 SDA (io), 6 SCL (in), 7 ~{WC} (in), 8 VCC (power)

## M24C32MW6
designator U?
32 Kbit Serial I²C Bus EEPROM; Published: 24-Aug-2001; LatestRevisionDate: 6-Jun-2005; LatestRevisionNote: Stylized 3D Model Added.; DatasheetDocument: Jul-1999; PackageDocument: Aug-1999; PackageReference: SO8W; Publisher: Altium Limited; ComponentLink1Description: Manufacturer Link; ComponentLink1URL: http://www.st.com/; ComponentLink2Description: Datasheet; ComponentLink2URL: http://www.st.com/stonline/products/literature/ds/4578/m24c32-w.pdf
footprint SO8W (Small Outline; 8 Leads; Body Width 5.3 mm; Pitch 1.27 mm)
3D model SO8W (Small Outline; 8 Leads; Body Width 5.3 mm; Pitch 1.27 mm)
pins: 1 E0 (in), 2 E1 (in), 3 E2 (in), 4 GND (power), 5 SDA (io), 6 SCL (in), 7 ~{WC} (in), 8 VCC (power)

## M24C32RBN1
designator U?
32 Kbit Serial I²C Bus EEPROM; Published: 24-Aug-2001; LatestRevisionDate: 6-Jun-2005; LatestRevisionNote: Stylized 3D Model Added.; DatasheetDocument: Jul-1999; PackageDocument: Jun-1998; PackageReference: PSDIP8A; Publisher: Altium Limited; ComponentLink1Description: Manufacturer Link; ComponentLink1URL: http://www.st.com/; ComponentLink2Description: Datasheet; ComponentLink2URL: http://www.st.com/stonline/products/literature/ds/4578/m24c32-w.pdf
footprint PSDIP8A (DIP; 8 Leads; Row Spacing 7.62 mm; Pitch 2.54 mm)
3D model PSDIP8A (DIP; 8 Leads; Row Spacing 7.62 mm; Pitch 2.54 mm)
pins: 1 E0 (in), 2 E1 (in), 3 E2 (in), 4 GND (power), 5 SDA (io), 6 SCL (in), 7 ~{WC} (in), 8 VCC (power)

## M24C32RMN1
designator U?
32 Kbit Serial I²C Bus EEPROM; Published: 24-Aug-2001; LatestRevisionDate: 6-Jun-2005; LatestRevisionNote: Stylized 3D Model Added.; DatasheetDocument: Jul-1999; PackageDocument: Jul-1999; PackageReference: SOP8; Publisher: Altium Limited; ComponentLink1Description: Manufacturer Link; ComponentLink1URL: http://www.st.com/; ComponentLink2Description: Datasheet; ComponentLink2URL: http://www.st.com/stonline/products/literature/ds/4578/m24c32-w.pdf
footprint SOP8 (Small Outline; 8 Leads; Body Width 3.9 mm; Pitch 1.27 mm)
3D model SOP8 (Small Outline; 8 Leads; Body Width 3.9 mm; Pitch 1.27 mm)
pins: 1 E0 (in), 2 E1 (in), 3 E2 (in), 4 GND (power), 5 SDA (io), 6 SCL (in), 7 ~{WC} (in), 8 VCC (power)

## M24C32RMW1
designator U?
32 Kbit Serial I²C Bus EEPROM; Published: 24-Aug-2001; LatestRevisionDate: 6-Jun-2005; LatestRevisionNote: Stylized 3D Model Added.; DatasheetDocument: Jul-1999; PackageDocument: Aug-1999; PackageReference: SO8W; Publisher: Altium Limited; ComponentLink1Description: Manufacturer Link; ComponentLink1URL: http://www.st.com/; ComponentLink2Description: Datasheet; ComponentLink2URL: http://www.st.com/stonline/products/literature/ds/4578/m24c32-w.pdf
footprint SO8W (Small Outline; 8 Leads; Body Width 5.3 mm; Pitch 1.27 mm)
3D model SO8W (Small Outline; 8 Leads; Body Width 5.3 mm; Pitch 1.27 mm)
pins: 1 E0 (in), 2 E1 (in), 3 E2 (in), 4 GND (power), 5 SDA (io), 6 SCL (in), 7 ~{WC} (in), 8 VCC (power)

## M24C32WBN1
designator U?
32 Kbit Serial I²C Bus EEPROM; Published: 24-Aug-2001; LatestRevisionDate: 6-Jun-2005; LatestRevisionNote: Stylized 3D Model Added.; DatasheetDocument: Jul-1999; PackageDocument: Jun-1998; PackageReference: PSDIP8A; Publisher: Altium Limited; ComponentLink1Description: Manufacturer Link; ComponentLink1URL: http://www.st.com/; ComponentLink2Description: Datasheet; ComponentLink2URL: http://www.st.com/stonline/products/literature/ds/4578/m24c32-w.pdf
footprint PSDIP8A (DIP; 8 Leads; Row Spacing 7.62 mm; Pitch 2.54 mm)
3D model PSDIP8A (DIP; 8 Leads; Row Spacing 7.62 mm; Pitch 2.54 mm)
pins: 1 E0 (in), 2 E1 (in), 3 E2 (in), 4 GND (power), 5 SDA (io), 6 SCL (in), 7 ~{WC} (in), 8 VCC (power)

## M24C32WBN3
designator U?
32 Kbit Serial I²C Bus EEPROM; Published: 24-Aug-2001; LatestRevisionDate: 6-Jun-2005; LatestRevisionNote: Stylized 3D Model Added.; DatasheetDocument: Jul-1999; PackageDocument: Jun-1998; PackageReference: PSDIP8A; Publisher: Altium Limited; ComponentLink1Description: Manufacturer Link; ComponentLink1URL: http://www.st.com/; ComponentLink2Description: Datasheet; ComponentLink2URL: http://www.st.com/stonline/products/literature/ds/4578/m24c32-w.pdf
footprint PSDIP8A (DIP; 8 Leads; Row Spacing 7.62 mm; Pitch 2.54 mm)
3D model PSDIP8A (DIP; 8 Leads; Row Spacing 7.62 mm; Pitch 2.54 mm)
pins: 1 E0 (in), 2 E1 (in), 3 E2 (in), 4 GND (power), 5 SDA (io), 6 SCL (in), 7 ~{WC} (in), 8 VCC (power)

## M24C32WBN6
designator U?
32 Kbit Serial I²C Bus EEPROM; Published: 24-Aug-2001; LatestRevisionDate: 6-Jun-2005; LatestRevisionNote: Stylized 3D Model Added.; DatasheetDocument: Jul-1999; PackageDocument: Jun-1998; PackageReference: PSDIP8A; Publisher: Altium Limited; ComponentLink1Description: Manufacturer Link; ComponentLink1URL: http://www.st.com/; ComponentLink2Description: Datasheet; ComponentLink2URL: http://www.st.com/stonline/products/literature/ds/4578/m24c32-w.pdf
footprint PSDIP8A (DIP; 8 Leads; Row Spacing 7.62 mm; Pitch 2.54 mm)
3D model PSDIP8A (DIP; 8 Leads; Row Spacing 7.62 mm; Pitch 2.54 mm)
pins: 1 E0 (in), 2 E1 (in), 3 E2 (in), 4 GND (power), 5 SDA (io), 6 SCL (in), 7 ~{WC} (in), 8 VCC (power)

## M24C32WMN1
designator U?
32 Kbit Serial I²C Bus EEPROM; Published: 24-Aug-2001; LatestRevisionDate: 6-Jun-2005; LatestRevisionNote: Stylized 3D Model Added.; DatasheetDocument: Jul-1999; PackageDocument: Jul-1999; PackageReference: SOP8; Publisher: Altium Limited; ComponentLink1Description: Manufacturer Link; ComponentLink1URL: http://www.st.com/; ComponentLink2Description: Datasheet; ComponentLink2URL: http://www.st.com/stonline/products/literature/ds/4578/m24c32-w.pdf
footprint SOP8 (Small Outline; 8 Leads; Body Width 3.9 mm; Pitch 1.27 mm)
3D model SOP8 (Small Outline; 8 Leads; Body Width 3.9 mm; Pitch 1.27 mm)
pins: 1 E0 (in), 2 E1 (in), 3 E2 (in), 4 GND (power), 5 SDA (io), 6 SCL (in), 7 ~{WC} (in), 8 VCC (power)

## M24C32WMN3
designator U?
32 Kbit Serial I²C Bus EEPROM; Published: 24-Aug-2001; LatestRevisionDate: 6-Jun-2005; LatestRevisionNote: Stylized 3D Model Added.; DatasheetDocument: Jul-1999; PackageDocument: Jul-1999; PackageReference: SOP8; Publisher: Altium Limited; ComponentLink1Description: Manufacturer Link; ComponentLink1URL: http://www.st.com/; ComponentLink2Description: Datasheet; ComponentLink2URL: http://www.st.com/stonline/products/literature/ds/4578/m24c32-w.pdf
footprint SOP8 (Small Outline; 8 Leads; Body Width 3.9 mm; Pitch 1.27 mm)
3D model SOP8 (Small Outline; 8 Leads; Body Width 3.9 mm; Pitch 1.27 mm)
pins: 1 E0 (in), 2 E1 (in), 3 E2 (in), 4 GND (power), 5 SDA (io), 6 SCL (in), 7 ~{WC} (in), 8 VCC (power)

## M24C32WMN6
designator U?
32 Kbit Serial I²C Bus EEPROM; Published: 24-Aug-2001; LatestRevisionDate: 6-Jun-2005; LatestRevisionNote: Stylized 3D Model Added.; DatasheetDocument: Jul-1999; PackageDocument: Jul-1999; PackageReference: SOP8; Publisher: Altium Limited; ComponentLink1Description: Manufacturer Link; ComponentLink1URL: http://www.st.com/; ComponentLink2Description: Datasheet; ComponentLink2URL: http://www.st.com/stonline/products/literature/ds/4578/m24c32-w.pdf
footprint SOP8 (Small Outline; 8 Leads; Body Width 3.9 mm; Pitch 1.27 mm)
3D model SOP8 (Small Outline; 8 Leads; Body Width 3.9 mm; Pitch 1.27 mm)
pins: 1 E0 (in), 2 E1 (in), 3 E2 (in), 4 GND (power), 5 SDA (io), 6 SCL (in), 7 ~{WC} (in), 8 VCC (power)

## M24C32WMW1
designator U?
32 Kbit Serial I²C Bus EEPROM; Published: 24-Aug-2001; LatestRevisionDate: 6-Jun-2005; LatestRevisionNote: Stylized 3D Model Added.; DatasheetDocument: Jul-1999; PackageDocument: Aug-1999; PackageReference: SO8W; Publisher: Altium Limited; ComponentLink1Description: Manufacturer Link; ComponentLink1URL: http://www.st.com/; ComponentLink2Description: Datasheet; ComponentLink2URL: http://www.st.com/stonline/products/literature/ds/4578/m24c32-w.pdf
footprint SO8W (Small Outline; 8 Leads; Body Width 5.3 mm; Pitch 1.27 mm)
3D model SO8W (Small Outline; 8 Leads; Body Width 5.3 mm; Pitch 1.27 mm)
pins: 1 E0 (in), 2 E1 (in), 3 E2 (in), 4 GND (power), 5 SDA (io), 6 SCL (in), 7 ~{WC} (in), 8 VCC (power)

## M24C32WMW3
designator U?
32 Kbit Serial I²C Bus EEPROM; Published: 24-Aug-2001; LatestRevisionDate: 6-Jun-2005; LatestRevisionNote: Stylized 3D Model Added.; DatasheetDocument: Jul-1999; PackageDocument: Aug-1999; PackageReference: SO8W; Publisher: Altium Limited; ComponentLink1Description: Manufacturer Link; ComponentLink1URL: http://www.st.com/; ComponentLink2Description: Datasheet; ComponentLink2URL: http://www.st.com/stonline/products/literature/ds/4578/m24c32-w.pdf
footprint SO8W (Small Outline; 8 Leads; Body Width 5.3 mm; Pitch 1.27 mm)
3D model SO8W (Small Outline; 8 Leads; Body Width 5.3 mm; Pitch 1.27 mm)
pins: 1 E0 (in), 2 E1 (in), 3 E2 (in), 4 GND (power), 5 SDA (io), 6 SCL (in), 7 ~{WC} (in), 8 VCC (power)

## M24C32WMW6
designator U?
32 Kbit Serial I²C Bus EEPROM; Published: 24-Aug-2001; LatestRevisionDate: 6-Jun-2005; LatestRevisionNote: Stylized 3D Model Added.; DatasheetDocument: Jul-1999; PackageDocument: Aug-1999; PackageReference: SO8W; Publisher: Altium Limited; ComponentLink1Description: Manufacturer Link; ComponentLink1URL: http://www.st.com/; ComponentLink2Description: Datasheet; ComponentLink2URL: http://www.st.com/stonline/products/literature/ds/4578/m24c32-w.pdf
footprint SO8W (Small Outline; 8 Leads; Body Width 5.3 mm; Pitch 1.27 mm)
3D model SO8W (Small Outline; 8 Leads; Body Width 5.3 mm; Pitch 1.27 mm)
pins: 1 E0 (in), 2 E1 (in), 3 E2 (in), 4 GND (power), 5 SDA (io), 6 SCL (in), 7 ~{WC} (in), 8 VCC (power)

## M24C64BN1
designator U?
64 Kbit Serial I²C Bus EEPROM; Published: 24-Aug-2001; LatestRevisionDate: 6-Jun-2005; LatestRevisionNote: Stylized 3D Model Added.; DatasheetDocument: Jul-1999; PackageDocument: Jun-1998; PackageReference: PSDIP8A; Publisher: Altium Limited; ComponentLink1Description: Manufacturer Link; ComponentLink1URL: http://www.st.com/; ComponentLink2Description: Datasheet; ComponentLink2URL: http://www.st.com/stonline/products/literature/ds/4578/m24c32-w.pdf
footprint PSDIP8A (DIP; 8 Leads; Row Spacing 7.62 mm; Pitch 2.54 mm)
3D model PSDIP8A (DIP; 8 Leads; Row Spacing 7.62 mm; Pitch 2.54 mm)
pins: 1 E0 (in), 2 E1 (in), 3 E2 (in), 4 GND (power), 5 SDA (io), 6 SCL (in), 7 ~{WC} (in), 8 VCC (power)

## M24C64BN3
designator U?
64 Kbit Serial I²C Bus EEPROM; Published: 24-Aug-2001; LatestRevisionDate: 6-Jun-2005; LatestRevisionNote: Stylized 3D Model Added.; DatasheetDocument: Jul-1999; PackageDocument: Jun-1998; PackageReference: PSDIP8A; Publisher: Altium Limited; ComponentLink1Description: Manufacturer Link; ComponentLink1URL: http://www.st.com/; ComponentLink2Description: Datasheet; ComponentLink2URL: http://www.st.com/stonline/products/literature/ds/4578/m24c32-w.pdf
footprint PSDIP8A (DIP; 8 Leads; Row Spacing 7.62 mm; Pitch 2.54 mm)
3D model PSDIP8A (DIP; 8 Leads; Row Spacing 7.62 mm; Pitch 2.54 mm)
pins: 1 E0 (in), 2 E1 (in), 3 E2 (in), 4 GND (power), 5 SDA (io), 6 SCL (in), 7 ~{WC} (in), 8 VCC (power)